# EAGLE library part CHERRY-MX-4P (library cherrymx)
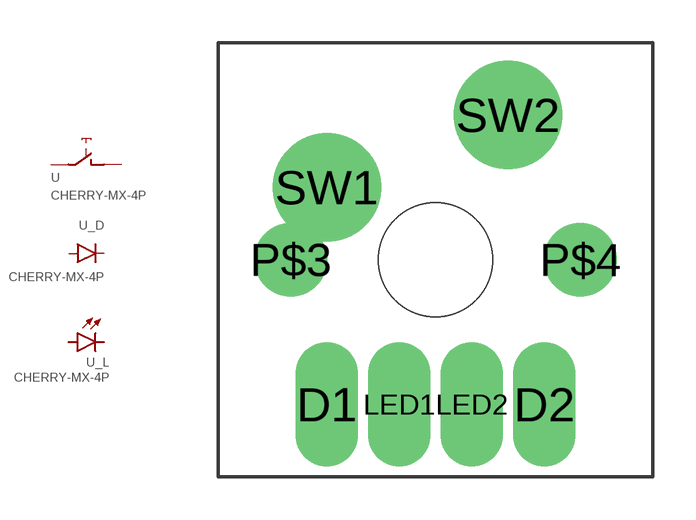
[diagram p0: symbol with the pads of CHERRY-MX-4P; footprint CHERRY-MX-4P]

Designator prefix -; gates G$1=CHERRY-MX _D=DIODE _L=LED

## CHERRY-MX-4P  [CHERRY-MX-4P]
D1  _D:D1  pas
D2  _D:D2  pas
LED1  _L:LED1  pas
LED2  _L:LED2  pas
SW1  G$1:PIN-1  pas
SW2  G$1:PIN-2  pas

## Footprint CHERRY-MX-4P (pad centres in mm)
Cherry MX Series Keyswitch footprint with holes for diode or wire bridge
drill 1.016 pad 2.184 long: D1 -3.81,-5.08; D2 3.81,-5.08; LED1 -1.27,-5.08; LED2 1.27,-5.08
drill 1.714 pad 1.93: P$3 -5.08,0; P$4 5.08,0
drill 1.5 pad 3.81: SW1 -3.81,2.54; SW2 2.54,5.08
hole 4 at 0,0